# Altium schematic symbol library SRP3212A-4R7M.SchLib: 1 symbol
Pins are listed as number, name and electrical type; pins without a type are passive.

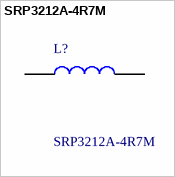
[diagram p0: symbol SRP3212A-4R7M]

## SRP3212A-4R7M
designator L?
Ind,3.2x2.5x1mm,4.7uH+/-20%,2.2A,shd; Manufacturer_Name: Bourns; Geometry.Height: 1.2mm; Mouser Part Number: 652-SRP3212A-4R7M; Mouser Price/Stock: https://www.mouser.co.uk/ProductDetail/Bourns/SRP3212A-4R7M?qs=t7xnP681wgUDaQ9KSPrZtA%3D%3D; Manufacturer_Part_Number: SRP3212A-4R7M; Datasheet Link: https://www.bourns.com/docs/product-datasheets/srp3212.pdf
footprint INDC3225X120N
pins: 1, 2